# EAGLE library part PIC16LC711 (library act-global-nolan)
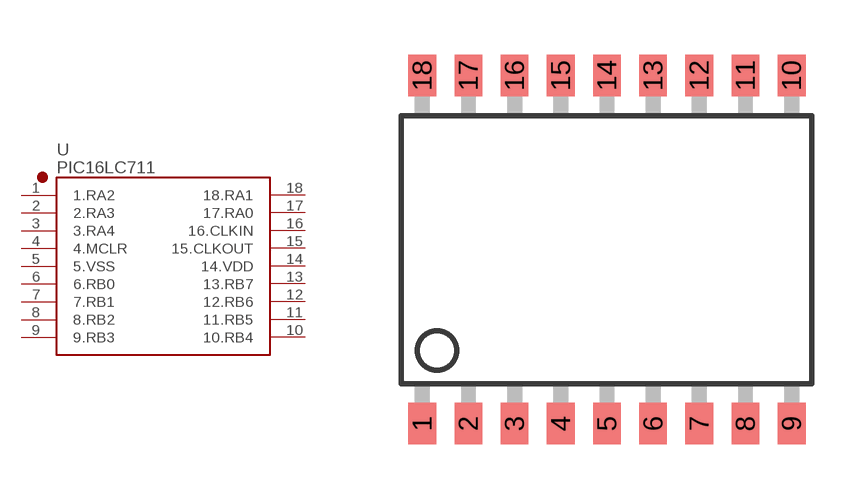
[diagram p52: symbol with the pads of SO-18W; footprint SO-18W]

Designator prefix -

## PIC16LC711  [SO-18W]
1  1.RA2
2  2.RA3
3  3.RA4
4  4.MCLR
5  5.VSS
6  6.RB0
7  7.RB1
8  8.RB2
9  9.RB3
10  10.RB4
11  11.RB5
12  12.RB6
13  13.RB7
14  14.VDD
15  15.CLKOUT
16  16.CLKIN
17  17.RA0
18  18.RA1

## Footprint SO-18W (pad centres in mm)
Small Outline Wide Plastic Gull Wing 300-mil body, package type SO
smd 0.762 x 1.143: 1 -5.08,-4.788; 2 -3.81,-4.788; 3 -2.54,-4.788; 4 -1.27,-4.788; 5 0,-4.788; 6 1.27,-4.788; 7 2.54,-4.788; 8 3.81,-4.788; 9 5.08,-4.788; 10 5.08,4.788; 11 3.81,4.788; 12 2.54,4.788; 13 1.27,4.788; 14 0,4.788; 15 -1.27,4.788; 16 -2.54,4.788; 17 -3.81,4.788; 18 -5.08,4.788